# EAGLE library part STM32F407ZXTX (library be_stm32)
edited: Mario Blunk / Blunk electronic
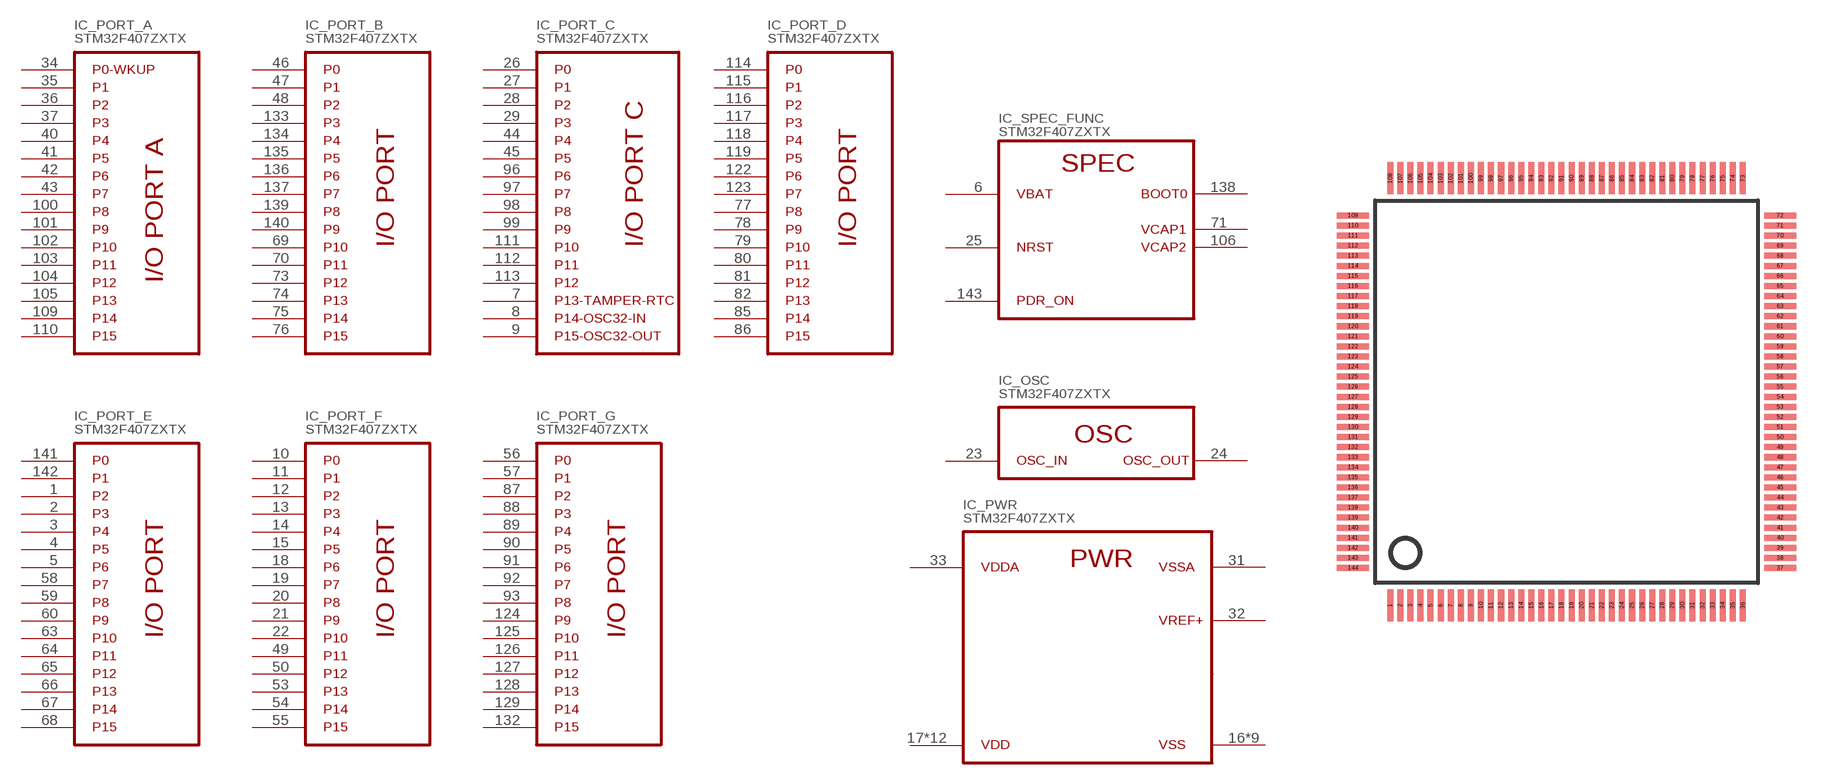
[diagram p0: symbol with the pads of S_LQFP144; footprint S_LQFP144]

Designator prefix IC; gates _PWR=PWR _OSC=OSC _PORT_B=IO_PORT _PORT_C=IO_PORT_C _PORT_D=IO_PORT _PORT_E=IO_PORT _PORT_F=IO_PORT _PORT_G=IO_PORT _SPEC_FUNC=SPECIAL_FUNC _PORT_A=IO_PORT_A

## STM32F407ZXTX (BOM: YES; COMMISSIONED: 2013-08-30; PART_CODE_BEL: IC_PAC_S_LQFP144_VAL_STM32F407ZxTx; UPDATED: 2013-11-18)  [S_LQFP144]
1  _PORT_E:P2
2  _PORT_E:P3
3  _PORT_E:P4
4  _PORT_E:P5
5  _PORT_E:P6
6  _SPEC_FUNC:VBAT  pas
7  _PORT_C:P13-TAMPER-RTC
8  _PORT_C:P14-OSC32-IN
9  _PORT_C:P15-OSC32-OUT
10  _PORT_F:P0
11  _PORT_F:P1
12  _PORT_F:P2
13  _PORT_F:P3
14  _PORT_F:P4
15  _PORT_F:P5
16  _PWR:VSS  pwr
17  _PWR:VDD  pwr
18  _PORT_F:P6
19  _PORT_F:P7
20  _PORT_F:P8
21  _PORT_F:P9
22  _PORT_F:P10
23  _OSC:OSC_IN  pas
24  _OSC:OSC_OUT  out
25  _SPEC_FUNC:NRST  in
26  _PORT_C:P0
27  _PORT_C:P1
28  _PORT_C:P2
29  _PORT_C:P3
30  _PWR:VDD  pwr
31  _PWR:VSSA  pwr
32  _PWR:VREF+  pwr
33  _PWR:VDDA  pwr
34  _PORT_A:P0-WKUP
35  _PORT_A:P1
36  _PORT_A:P2
37  _PORT_A:P3
38  _PWR:VSS  pwr
39  _PWR:VDD  pwr
40  _PORT_A:P4
41  _PORT_A:P5
42  _PORT_A:P6
43  _PORT_A:P7
44  _PORT_C:P4
45  _PORT_C:P5
46  _PORT_B:P0
47  _PORT_B:P1
48  _PORT_B:P2
49  _PORT_F:P11
50  _PORT_F:P12
51  _PWR:VSS  pwr
52  _PWR:VDD  pwr
53  _PORT_F:P13
54  _PORT_F:P14
55  _PORT_F:P15
56  _PORT_G:P0
57  _PORT_G:P1
58  _PORT_E:P7
59  _PORT_E:P8
60  _PORT_E:P9
61  _PWR:VSS  pwr
62  _PWR:VDD  pwr
63  _PORT_E:P10
64  _PORT_E:P11
65  _PORT_E:P12
66  _PORT_E:P13
67  _PORT_E:P14
68  _PORT_E:P15
69  _PORT_B:P10
70  _PORT_B:P11
71  _SPEC_FUNC:VCAP1  pas
72  _PWR:VDD  pwr
73  _PORT_B:P12
74  _PORT_B:P13
75  _PORT_B:P14
76  _PORT_B:P15
77  _PORT_D:P8
78  _PORT_D:P9
79  _PORT_D:P10
80  _PORT_D:P11
81  _PORT_D:P12
82  _PORT_D:P13
83  _PWR:VSS  pwr
84  _PWR:VDD  pwr
85  _PORT_D:P14
86  _PORT_D:P15
87  _PORT_G:P2
88  _PORT_G:P3
89  _PORT_G:P4
90  _PORT_G:P5
91  _PORT_G:P6
92  _PORT_G:P7
93  _PORT_G:P8
94  _PWR:VSS  pwr
95  _PWR:VDD  pwr
96  _PORT_C:P6
97  _PORT_C:P7
98  _PORT_C:P8
99  _PORT_C:P9
100  _PORT_A:P8
101  _PORT_A:P9
102  _PORT_A:P10
103  _PORT_A:P11
104  _PORT_A:P12
105  _PORT_A:P13
106  _SPEC_FUNC:VCAP2  pas
107  _PWR:VSS  pwr
108  _PWR:VDD  pwr
109  _PORT_A:P14
110  _PORT_A:P15
111  _PORT_C:P10
112  _PORT_C:P11
113  _PORT_C:P12
114  _PORT_D:P0
115  _PORT_D:P1
116  _PORT_D:P2
117  _PORT_D:P3
118  _PORT_D:P4
119  _PORT_D:P5
120  _PWR:VSS  pwr
121  _PWR:VDD  pwr
122  _PORT_D:P6
123  _PORT_D:P7
124  _PORT_G:P9
125  _PORT_G:P10
126  _PORT_G:P11
127  _PORT_G:P12
128  _PORT_G:P13
129  _PORT_G:P14
130  _PWR:VSS  pwr
131  _PWR:VDD  pwr
132  _PORT_G:P15
133  _PORT_B:P3
134  _PORT_B:P4
135  _PORT_B:P5
136  _PORT_B:P6
137  _PORT_B:P7
138  _SPEC_FUNC:BOOT0  in
139  _PORT_B:P8
140  _PORT_B:P9
141  _PORT_E:P0
142  _PORT_E:P1
143  _SPEC_FUNC:PDR_ON  in
144  _PWR:VDD  pwr

## Footprint S_LQFP144 (pad centres in mm)
LQFP144 shrink quad flat pack, square package edited: Mario Blunk / Blunk electronic date: 2014-01-16
smd 0.3 x 1.6: 1 -8.75,-10.6; 2 -8.25,-10.6; 3 -7.75,-10.6; 4 -7.25,-10.6; 5 -6.75,-10.6; 6 -6.25,-10.6; 7 -5.75,-10.6; 8 -5.25,-10.6; 9 -4.75,-10.6; 10 -4.25,-10.6; 11 -3.75,-10.6; 12 -3.25,-10.6; 13 -2.75,-10.6; 14 -2.25,-10.6; 15 -1.75,-10.6; 16 -1.25,-10.6; 17 -0.75,-10.6; 18 -0.25,-10.6; 19 0.25,-10.6; 20 0.75,-10.6; 21 1.25,-10.6; 22 1.75,-10.6; 23 2.25,-10.6; 24 2.75,-10.6; 25 3.25,-10.6; 26 3.75,-10.6; 27 4.25,-10.6; 28 4.75,-10.6; 29 5.25,-10.6; 30 5.75,-10.6; 31 6.25,-10.6; 32 6.75,-10.6; 33 7.25,-10.6; 34 7.75,-10.6; 35 8.25,-10.6; 36 8.75,-10.6; 73 8.75,10.6; 74 8.25,10.6; 75 7.75,10.6; 76 7.25,10.6; 77 6.75,10.6; 78 6.25,10.6; 79 5.75,10.6; 80 5.25,10.6; 81 4.75,10.6; 82 4.25,10.6; 83 3.75,10.6; 84 3.25,10.6; 85 2.75,10.6; 86 2.25,10.6; 87 1.75,10.6; 88 1.25,10.6; 89 0.75,10.6; 90 0.25,10.6; 91 -0.25,10.6; 92 -0.75,10.6; 93 -1.25,10.6; 94 -1.75,10.6; 95 -2.25,10.6; 96 -2.75,10.6; 97 -3.25,10.6; 98 -3.75,10.6; 99 -4.25,10.6; 100 -4.75,10.6; 101 -5.25,10.6; 102 -5.75,10.6; 103 -6.25,10.6; 104 -6.75,10.6; 105 -7.25,10.6; 106 -7.75,10.6; 107 -8.25,10.6; 108 -8.75,10.6
smd 1.6 x 0.3: 37 10.6,-8.75; 38 10.6,-8.25; 39 10.6,-7.75; 40 10.6,-7.25; 41 10.6,-6.75; 42 10.6,-6.25; 43 10.6,-5.75; 44 10.6,-5.25; 45 10.6,-4.75; 46 10.6,-4.25; 47 10.6,-3.75; 48 10.6,-3.25; 49 10.6,-2.75; 50 10.6,-2.25; 51 10.6,-1.75; 52 10.6,-1.25; 53 10.6,-0.75; 54 10.6,-0.25; 55 10.6,0.25; 56 10.6,0.75; 57 10.6,1.25; 58 10.6,1.75; 59 10.6,2.25; 60 10.6,2.75; 61 10.6,3.25; 62 10.6,3.75; 63 10.6,4.25; 64 10.6,4.75; 65 10.6,5.25; 66 10.6,5.75; 67 10.6,6.25; 68 10.6,6.75; 69 10.6,7.25; 70 10.6,7.75; 71 10.6,8.25; 72 10.6,8.75; 109 -10.6,8.75; 110 -10.6,8.25; 111 -10.6,7.75; 112 -10.6,7.25; 113 -10.6,6.75; 114 -10.6,6.25; 115 -10.6,5.75; 116 -10.6,5.25; 117 -10.6,4.75; 118 -10.6,4.25; 119 -10.6,3.75; 120 -10.6,3.25; 121 -10.6,2.75; 122 -10.6,2.25; 123 -10.6,1.75; 124 -10.6,1.25; 125 -10.6,0.75; 126 -10.6,0.25; 127 -10.6,-0.25; 128 -10.6,-0.75; 129 -10.6,-1.25; 130 -10.6,-1.75; 131 -10.6,-2.25; 132 -10.6,-2.75; 133 -10.6,-3.25; 134 -10.6,-3.75; 135 -10.6,-4.25; 136 -10.6,-4.75; 137 -10.6,-5.25; 138 -10.6,-5.75; 139 -10.6,-6.25; 140 -10.6,-6.75; 141 -10.6,-7.25; 142 -10.6,-7.75; 143 -10.6,-8.25; 144 -10.6,-8.75